# Altium footprint library Capacitors Tantalum SMD.PcbLib: 4 footprints
Each footprint in its own frame and in the unit in brackets; x right, y up, seen from the top. Pads: shape width x height; smd on the part's side, far side on the other; paste and mask are expansions set on the pad; w line width, h text height; cw(c..) or ccw(c..) is an arc to the next point about the centre after c.
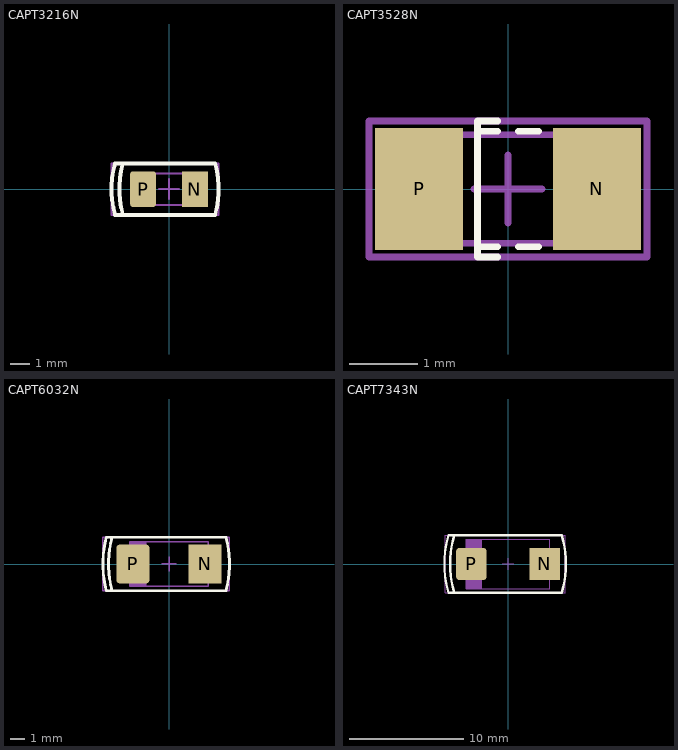
[diagram p0: the footprints below, top view; thin cyan lines are the x and y axes]

## CAPT3216N [mm]
height 1.35
pads (2):
  rect 1.3x1.8 smd: N(1.31,0)
  rrect20% 1.3x1.8 smd: P(-1.31,0)
Top Overlay:
  lines w0.2: -2.737,1.278 ccw(c2.139,0.006) -2.734,-1.277 ; -2.725,-1.3 -2.3,-1.3 2.325,-1.3 ; -2.725,1.3 -2.3,1.3 ; -2.337,1.278 ccw(c2.539,0.006) -2.334,-1.277 ; -2.325,1.3 2.325,1.3 ; 2.334,-1.277 ccw(c-2.539,0.006) 2.337,1.278
Top Package:
  rectangle: -1.7,-0.8 -0.975,0.8
  lines w0.1: -1.7,-0.625 -1.85,-0.625 -1.85,0.625 -1.7,0.625 ; -1,-0.8 -1,0.8 ; 1.7,-0.625 1.85,-0.625 1.85,0.625 1.7,0.625 ; -1.7,-0.8 -1.7,0.8 1.7,0.8 1.7,-0.8 -1.7,-0.8
Top Border:
  lines w0.1: -0.5,0 0.5,0 ; 0,-0.5 0,0.5 ; -2.9,-1.3 -2.9,1.3 2.5,1.3 2.5,-1.3 -2.9,-1.3
3D body "CAPT3216.step": height 1.6, standoff 0, extent -1.6,-0.8 1.6,0.8

## CAPT3528N [mm]
height 2.3
pads (2):
  rect 1.3x1.8 smd: N(1.31,0) P(-1.31,0)
Top Overlay:
  lines w0.1: -0.45,-0.85 -0.15,-0.85 ; -0.45,0.85 -0.15,0.85 ; -0.15,-1 -0.45,-1 -0.45,1 -0.15,1 ; 0.15,-0.85 0.45,-0.85 ; 0.15,0.85 0.45,0.85
Top Package:
  rectangle: -1.7,-0.8 -0.975,0.8
  lines w0.1: -1.7,-0.625 -1.85,-0.625 -1.85,0.625 -1.7,0.625 ; -1,-0.8 -1,0.8 ; 1.7,-0.625 1.85,-0.625 1.85,0.625 1.7,0.625 ; -1.7,-0.8 1.7,-0.8 1.7,0.8 -1.7,0.8 -1.7,-0.8
Top Border:
  lines w0.1: -0.5,0 0.5,0 ; 0,-0.5 0,0.5 ; -2.05,-1 2.05,-1 2.05,1 -2.05,1 -2.05,-1
3D body "CAPT3216.step": height 1.6, standoff 0, extent -1.6,-0.8 1.6,0.8

## CAPT6032N [mm]
height 2.8
pads (2):
  rect 2.35x2.77 smd: N(2.57,0)
  rrect20% 2.35x2.77 smd: P(-2.57,0)
Top Overlay:
  lines w0.2: -4.457,-1.891 cw(c2.788,0) -4.457,1.891 ; -4.45,-1.9 -4.025,-1.9 ; -4.45,1.9 -4.025,1.9 ; -4.057,-1.891 cw(c3.188,0) -4.057,1.891 ; -4.05,-1.9 4.05,-1.9 ; -4.05,1.9 4.05,1.9 ; 4.057,-1.891 ccw(c-3.188,0) 4.057,1.891
Top Package:
  rectangle: -2.8,-1.6 -1.6,1.6
  lines w0.1: -2.8,-1.1 -3,-1.1 -3,1.1 -2.8,1.1 ; 2.8,-1.1 3,-1.1 3,1.1 2.8,1.1 ; -2.8,-1.6 -2.8,1.6 2.8,1.6 2.8,-1.6 -2.8,-1.6
Top Border:
  lines w0.1: -4.7,-1.9 4.3,-1.9 4.3,1.9 -4.7,1.9 -4.7,-1.9 ; -0.5,0 0.5,0 -0.5,0 ; 0,-0.5 0,0.5 0,-0.5
3D body "CAPT6032.step": height 2.5, standoff 0, extent -3,-1.6 3,1.6

## CAPT7343N [mm]
height 2.8
pads (2):
  rect 2.65x2.8 smd: N(3.2,0)
  rrect20% 2.65x2.8 smd: P(-3.2,0)
Top Overlay:
  lines w0.2: -5.205,-2.501 cw(c3.525,0) -5.205,2.501 ; -5.2,-2.5 -4.7,-2.5 4.7,-2.5 ; -5.2,2.5 -4.7,2.5 4.7,2.5 ; -4.705,-2.501 cw(c4.025,0) -4.705,2.501 ; 4.705,-2.501 ccw(c-4.025,0) 4.705,2.501
Top Package:
  rectangle: -3.65,-2.15 -2.25,2.125
  lines w0.1: -3.65,-1.1 -3.85,-1.1 -3.85,1.1 -3.65,1.1 ; 3.65,-1.1 3.85,-1.1 3.85,1.1 3.65,1.1 ; -3.65,-2.15 -3.65,2.15 3.65,2.15 3.65,-2.15 -3.65,-2.15
Top Border:
  lines w0.1: -0.5,0 0.5,0 ; 0,-0.5 0,0.5 ; -5.5,-2.5 -5.5,2.5 5,2.5 5,-2.5 -5.5,-2.5
3D body "User Library-CAP_TANT_7343-31.step": height 3.1, standoff 0, extent -3.8,-2.3 3.8,2.3